# Altium schematic symbol library SCH - FET - N-CH - DIODES INC MOSFET U-DFN2020-6 TYPE E.SCHLIB: 1 symbol
Pins are listed as number, name and electrical type; pins without a type are passive.

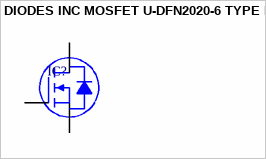
[diagram p0: symbol DIODES INC MOSFET U-DFN2020-6 TYPE E]

## DIODES INC MOSFET U-DFN2020-6 TYPE E
designator IC?
pins: D Drain, D Drain, D Drain, D Drain, D Drain, D Drain, D Drain, D Drain, G, S